# Altium schematic symbol library special.SCHLIB: 1 symbol
Pins are listed as number, name and electrical type; pins without a type are passive.

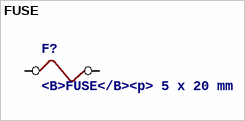
[diagram p0: symbol FUSE]

## FUSE
designator F?, comment <B>FUSE</B><p> / 5 x 20 mm
footprint FUSE
pins: 1, 2